# Altium integrated library Semi.IntLib: 6 symbols
Pins are listed as number, name and electrical type; pins without a type are passive.

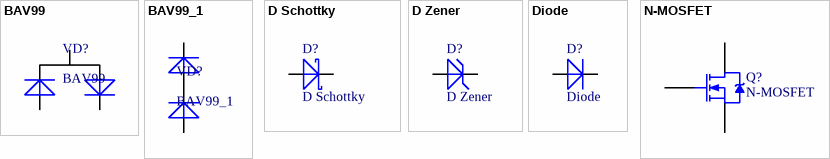
[diagram p0: symbols BAV99 to N-MOSFET]

## BAV99
designator VD?
Series-pair high conductance ultra-fast switching diode
footprint SOT-23A (SOT-23; 3 Leads; Body 3.1 x 2.5 mm, inc. leads (LxW max))
pins: 1 A, 2 K, 3 AK

## BAV99_1
designator VD?
Series-pair high conductance ultra-fast switching diode
footprint SOT-23A (SOT-23; 3 Leads; Body 3.1 x 2.5 mm, inc. leads (LxW max))
pins: 1 A, 2 K, 3 AK

## D Schottky
designator D?
Schottky Diode; Published: 8-Jun-2000; LatestRevisionDate: 17-Jul-2002; LatestRevisionNote: Re-released for DXP Platform.; PackageReference: SMB; Publisher: Altium Limited; Code_JEDEC: DO-214-AA
simulation model SKYDIODE (Diode)
signal-integrity model D Schottky
footprint SS16-D (Diode 1A 60 V)
footprint SS22,SS24 (Diode 2A 20V, 40 V)
footprint SS26 (Diode 2A 60 V)
footprint DSO-C2/D5.6 (SM LED; 2 C-Bend Leads; Body 3.5 x 2.8 x 1.9 mm, inc leads (LxWxH typ))
footprint DSO-C2/X2.3 (DO-214-AA/SMB; 2 C-Bend Leads; Body 5.3 x 3.6 mm, inc. leads (LxW))
footprint DSO-C2/X3.3 (DO-214-AB/SMC; 2 C-Bend Leads; Body 7.9 x 5.9 mm, inc. leads (LxW))
footprint DSO-F2/D6.1 (SMT LED; 2 Flat Leads)
footprint MELF-D3512-1405 (Metal Electrode Face (MELF) Diode; Body 3.5 x 1.5 mm (LxDia))
footprint MELF-D3513-1405 (Metal Electrode Face (MELF) Diode; Body 3.5 x 1.6 mm (LxDia))
footprint MELF-D3516-1406 (Metal Electrode Face (MELF) Diode; Body 3.5 x 1.7 mm (LxDia))
footprint MELF-D5022-2009 (Metal Electrode Face (MELF) Diode; Body 5 x 2.5 mm (LxDia))
footprint MELF-D5023-2009 (Metal Electrode Face (MELF) Diode; Body 5 x 2.5 mm (LxDia))
footprint DIO6.35-3.1x1.6 (Diode, Axial; Body 3 x 1.6 mm (LxDia. max), Lead Dia. 0.55 mm (max))
footprint DIO7.1-3.9x1.9 (Diode, Axial; Body 3.8 x 1.9 mm (LxDia. max), Lead Dia. 0.53 mm (max))
footprint DIO7.4-4x2 (Diode, Axial; Body 4 x 2 mm (LxDia. max), Lead Dia. 0.6 mm (max))
footprint DIO7.58-4.3x1.9 (Diode, Axial; Body 4.3 x 1.9 mm (LxDia. max), Lead Dia. 0.56 mm (max))
footprint DIO8.38-5.1x2.3 (Diode, Axial; Body 5.1 x 2.3 mm (LxDia. max), Lead Dia. 0.56 mm (max))
footprint DIO8.7-3.9x2.5 (Diode, Axial; Body 3.9 x 2.5 mm (LxDia. max), Lead Dia. 0.8 mm (max))
footprint DIO9.2-4.1x2.5 (Diode, Axial; Body 4.1 x 2.5 mm (LxDia. max), Lead Dia. 0.85 mm (max))
footprint DIO9.66-4.8x2.6 (Diode, Axial; Body 4.8 x 2.6 mm (LxDia. max), Lead Dia. 0.81 mm (max))
footprint DIO9.88-4.7x2.8 (Diode, Axial; Body 4.7 x 2.7 mm (LxDia. max), Lead Dia. 0.86 mm (max))
footprint DIO10.2-7x2.7 (Diode, Axial; Body 7 x 2.7 mm (LxDia. max), Lead Dia. 0.53 mm (max))
footprint DIO10.36-5.2x2.8 (Diode, Axial; Body 5.2 x 2.7 mm (LxDia. max), Lead Dia. 0.86 mm (max))
footprint DIO10.46-5.3x2.8 (Diode, Axial; Body 5.2 x 2.7 mm (LxDia. max), Lead Dia. 0.86 mm (max))
footprint DIO15.45-8.9x3.7 (Diode, Axial; Body 8.9 x 3.7 mm (LxDia. max), Lead Dia. 1.09 mm (max))
footprint DIO18.84-9.6x5.6 (Diode, Axial; Body 9.5 x 5.6 mm (LxDia. max), Lead Dia. 1.32 mm (max))
footprint DIO18.84-9.6x6.4 (Diode, Axial; Body 9.5 x 6.4 mm (LxDia. max), Lead Dia. 1.32 mm (max))
footprint DIO20.5-10x5.8 (Diode, Axial; Body 9.9 x 5.8 mm (LxDia. max), Lead Dia. 1.5 mm (max))
pins: 1 A, 2 K

## D Zener
designator D?
Zener Diode; Published: 8-Jun-2000; LatestRevisionDate: 17-Jul-2002; LatestRevisionNote: Re-released for DXP Platform.; PackageReference: DIODE-0.7; Publisher: Altium Limited
simulation model ZENER (Diode)
signal-integrity model D Zener
footprint MELF-D3512-1405 (Metal Electrode Face (MELF) Diode; Body 3.5 x 1.5 mm (LxDia))
footprint MELF-D3513-1405 (Metal Electrode Face (MELF) Diode; Body 3.5 x 1.6 mm (LxDia))
footprint MELF-D3516-1406 (Metal Electrode Face (MELF) Diode; Body 3.5 x 1.7 mm (LxDia))
footprint MELF-D5023-2009 (Metal Electrode Face (MELF) Diode; Body 5 x 2.5 mm (LxDia))
footprint MELF-D5022-2009 (Metal Electrode Face (MELF) Diode; Body 5 x 2.5 mm (LxDia))
footprint DIO6.35-3.1x1.6 (Diode, Axial; Body 3 x 1.6 mm (LxDia. max), Lead Dia. 0.55 mm (max))
footprint DIO7.1-3.9x1.9 (Diode, Axial; Body 3.8 x 1.9 mm (LxDia. max), Lead Dia. 0.53 mm (max))
footprint DIO7.4-4x2 (Diode, Axial; Body 4 x 2 mm (LxDia. max), Lead Dia. 0.6 mm (max))
footprint DIO7.58-4.3x1.9 (Diode, Axial; Body 4.3 x 1.9 mm (LxDia. max), Lead Dia. 0.56 mm (max))
footprint DIO8.38-5.1x2.3 (Diode, Axial; Body 5.1 x 2.3 mm (LxDia. max), Lead Dia. 0.56 mm (max))
footprint DIO8.7-3.9x2.5 (Diode, Axial; Body 3.9 x 2.5 mm (LxDia. max), Lead Dia. 0.8 mm (max))
footprint DIO9.2-4.1x2.5 (Diode, Axial; Body 4.1 x 2.5 mm (LxDia. max), Lead Dia. 0.85 mm (max))
footprint DIO9.66-4.8x2.6 (Diode, Axial; Body 4.8 x 2.6 mm (LxDia. max), Lead Dia. 0.81 mm (max))
footprint DIO9.88-4.7x2.8 (Diode, Axial; Body 4.7 x 2.7 mm (LxDia. max), Lead Dia. 0.86 mm (max))
footprint DIO10.36-5.2x2.8 (Diode, Axial; Body 5.2 x 2.7 mm (LxDia. max), Lead Dia. 0.86 mm (max))
footprint DIO10.2-7x2.7 (Diode, Axial; Body 7 x 2.7 mm (LxDia. max), Lead Dia. 0.53 mm (max))
footprint DIO10.46-5.3x2.8 (Diode, Axial; Body 5.2 x 2.7 mm (LxDia. max), Lead Dia. 0.86 mm (max))
footprint DIO15.45-8.9x3.7 (Diode, Axial; Body 8.9 x 3.7 mm (LxDia. max), Lead Dia. 1.09 mm (max))
footprint DIO18.84-9.6x5.6 (Diode, Axial; Body 9.5 x 5.6 mm (LxDia. max), Lead Dia. 1.32 mm (max))
footprint DIO18.84-9.6x6.4 (Diode, Axial; Body 9.5 x 6.4 mm (LxDia. max), Lead Dia. 1.32 mm (max))
footprint DIO20.5-10x5.8 (Diode, Axial; Body 9.9 x 5.8 mm (LxDia. max), Lead Dia. 1.5 mm (max))
pins: 1 A, 2 K

## Diode
designator D?
Default Diode; Published: 8-Jun-2000; LatestRevisionDate: 17-Jul-2002; LatestRevisionNote: Re-released for DXP Platform.; PackageVersion: Sep-1996; PackageReference: SMC; Publisher: Altium Limited; Code_JEDEC: DO-214-AB
simulation model DIODE (Diode)
signal-integrity model Diode
footprint DSO-C2/D5.6 (SM LED; 2 C-Bend Leads; Body 3.5 x 2.8 x 1.9 mm, inc leads (LxWxH typ))
footprint DSO-C2/X3.3 (DO-214-AB/SMC; 2 C-Bend Leads; Body 7.9 x 5.9 mm, inc. leads (LxW))
footprint DSO-F2/D6.1 (SMT LED; 2 Flat Leads)
footprint MELF-D3512-1405 (Metal Electrode Face (MELF) Diode; Body 3.5 x 1.5 mm (LxDia))
footprint MELF-D3513-1405 (Metal Electrode Face (MELF) Diode; Body 3.5 x 1.6 mm (LxDia))
footprint MELF-D3516-1406 (Metal Electrode Face (MELF) Diode; Body 3.5 x 1.7 mm (LxDia))
footprint MELF-D5022-2009 (Metal Electrode Face (MELF) Diode; Body 5 x 2.5 mm (LxDia))
footprint MELF-D5023-2009 (Metal Electrode Face (MELF) Diode; Body 5 x 2.5 mm (LxDia))
footprint SS16-D (Diode 1A 60 V)
footprint SS22,SS24 (Diode 2A 20V, 40 V)
footprint SS26 (Diode 2A 60 V)
footprint DIO6.35-3.1x1.6 (Diode, Axial; Body 3 x 1.6 mm (LxDia. max), Lead Dia. 0.55 mm (max))
footprint DIO7.1-3.9x1.9 (Diode, Axial; Body 3.8 x 1.9 mm (LxDia. max), Lead Dia. 0.53 mm (max))
footprint DIO7.4-4x2 (Diode, Axial; Body 4 x 2 mm (LxDia. max), Lead Dia. 0.6 mm (max))
footprint DIO7.58-4.3x1.9 (Diode, Axial; Body 4.3 x 1.9 mm (LxDia. max), Lead Dia. 0.56 mm (max))
footprint DIO8.38-5.1x2.3 (Diode, Axial; Body 5.1 x 2.3 mm (LxDia. max), Lead Dia. 0.56 mm (max))
footprint DIO8.7-3.9x2.5 (Diode, Axial; Body 3.9 x 2.5 mm (LxDia. max), Lead Dia. 0.8 mm (max))
footprint DIO9.2-4.1x2.5 (Diode, Axial; Body 4.1 x 2.5 mm (LxDia. max), Lead Dia. 0.85 mm (max))
footprint DIO9.66-4.8x2.6 (Diode, Axial; Body 4.8 x 2.6 mm (LxDia. max), Lead Dia. 0.81 mm (max))
footprint DIO9.88-4.7x2.8 (Diode, Axial; Body 4.7 x 2.7 mm (LxDia. max), Lead Dia. 0.86 mm (max))
footprint DIO10.2-7x2.7 (Diode, Axial; Body 7 x 2.7 mm (LxDia. max), Lead Dia. 0.53 mm (max))
footprint DIO10.36-5.2x2.8 (Diode, Axial; Body 5.2 x 2.7 mm (LxDia. max), Lead Dia. 0.86 mm (max))
footprint DIO10.46-5.3x2.8 (Diode, Axial; Body 5.2 x 2.7 mm (LxDia. max), Lead Dia. 0.86 mm (max))
footprint DIO15.45-8.9x3.7 (Diode, Axial; Body 8.9 x 3.7 mm (LxDia. max), Lead Dia. 1.09 mm (max))
footprint DIO18.84-9.6x5.6 (Diode, Axial; Body 9.5 x 5.6 mm (LxDia. max), Lead Dia. 1.32 mm (max))
footprint DIO18.84-9.6x6.4 (Diode, Axial; Body 9.5 x 6.4 mm (LxDia. max), Lead Dia. 1.32 mm (max))
footprint DIO20.5-10x5.8 (Diode, Axial; Body 9.9 x 5.8 mm (LxDia. max), Lead Dia. 1.5 mm (max))
pins: 1 A, 2 K

## N-MOSFET
designator Q?
HEXFET Power MOSFET; Published: 17-Sep-2003; DatasheetVersion: PD-9.487C; PackageReference: TO-254AA; Publisher: Altium Limited; PackageDescription: TO, Thru-Hole, Vertical, Heatsink Mounted; 3 In-Line Leads; Pitch 3.81 mm; Code_JEDEC: TO-254-AA; ComponentLink1Description: Manufacturer Link; ComponentLink1URL: http://www.irf.com/; ComponentLink2Description: Datasheet; ComponentLink2URL: http://www.irf.com/product-info/datasheets/data/IRHM57260SE.pdf
footprint TO-220AB (TO, Thru-Hole, Vertical, Heatsink Mounted; 3 In-Line Leads; Pitch 2.54 mm)
footprint TO-247AC (SIP with Mounting Hole; 3 Leads; Body 20 x 15.6 x 5 mm (typ); Pitch 5.45 mm)
footprint TO-247AC/TO-220AB Vertical (SIP with Mounting Hole; 3 Leads; Body 20 x 15.6 x 5 mm (typ); Pitch 5.45 mm)
footprint TO-247AC/TO-220AB Horizontal (SIP with Mounting Hole; 3 Leads; Body 20 x 15.6 x 5 mm (typ); Pitch 5.45 mm)
pins: 1 G, 2 D, 3 S